# EAGLE library part ALPHANUMERIC (library SparkFun)
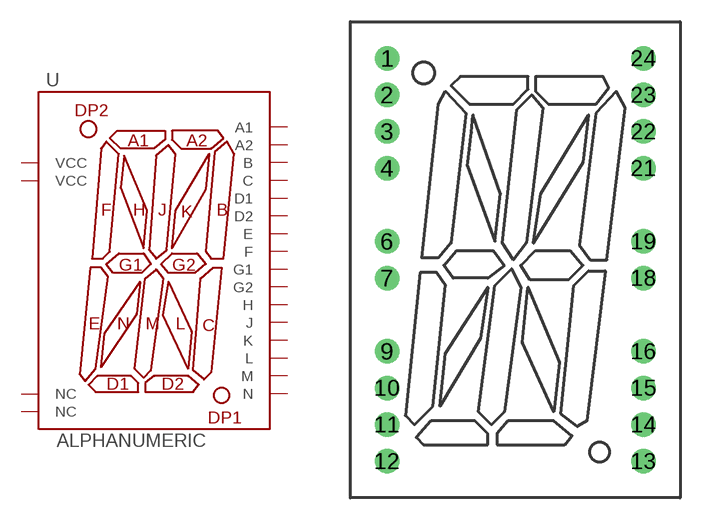
[diagram p323: symbol with the pads of ALPHANUMERIC; footprint ALPHANUMERIC]

Designator prefix U

## ALPHANUMERICPTH  [ALPHANUMERIC]
1  NC
2  A1
3  H
4  F
6  VCC
7  G1
9  E
10  D1
11  N
12  M
13  NC
14  D2
15  L
16  C
18  VCC
19  G2
21  B
22  A2
23  K
24  J

## Footprint ALPHANUMERIC (pad centres in mm)
drill 0.9 pad 1.7 round: 1 -8.89,13.97; 2 -8.89,11.43; 3 -8.89,8.89; 4 -8.89,6.35; 6 -8.89,1.27; 7 -8.89,-1.27; 9 -8.89,-6.35; 10 -8.89,-8.89; 11 -8.89,-11.43; 12 -8.89,-13.97; 13 8.89,-13.97; 14 8.89,-11.43; 15 8.89,-8.89; 16 8.89,-6.35; 18 8.89,-1.27; 19 8.89,1.27; 21 8.89,6.35; 22 8.89,8.89; 23 8.89,11.43; 24 8.89,13.97